# Altium schematic symbol library Diode.SchLib: 3 symbols
Pins are listed as number, name and electrical type; pins without a type are passive.

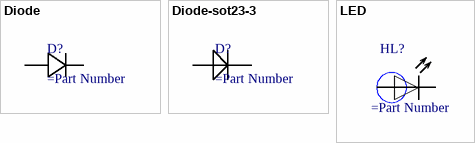
[diagram p0: symbols Diode to LED]

## Diode
designator D?
pins: 1 C, 2 A

## Diode-sot23-3
designator D?
pins: 1 C, 2 A, 3

## LED
designator HL?
pins: 1 C, 2 A